# EAGLE library part FTS-103-01-L-DV (library Conn_CAC)
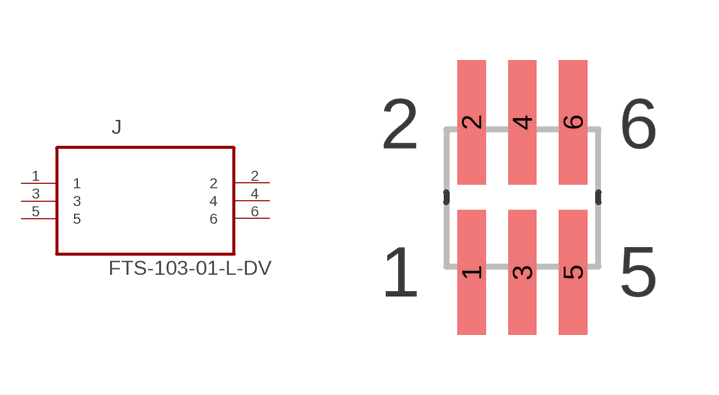
[diagram p1: symbol with the pads of SAMTEC_FTS-103-01-L-DV; footprint SAMTEC_FTS-103-01-L-DV]

Designator prefix J

## FTS-103-01-L-DV (DESCRIPTION: Through Hole Post Header; MPN: FTS-103-01-L-DV; OC_FARNELL: 1928409; OC_NEWARK: 11P4645; PACKAGE: 6 WAY header; SUPPLIER: SAMTEC)  [SAMTEC_FTS-103-01-L-DV]
1  1  pas
2  2  pas
3  3  pas
4  4  pas
5  5  pas
6  6  pas

## Footprint SAMTEC_FTS-103-01-L-DV (pad centres in mm)
smd 0.711 x 3.124: 1 -1.27,-1.88; 2 -1.27,1.88; 3 0,-1.88; 4 0,1.88; 5 1.27,-1.88; 6 1.27,1.88